# Altium footprint library 744273501.PcbLib: 1 footprints
Each footprint in its own frame and in the unit in brackets; x right, y up, seen from the top. Pads: shape width x height; smd on the part's side, far side on the other; paste and mask are expansions set on the pad; w line width, h text height; cw(c..) or ccw(c..) is an arc to the next point about the centre after c.
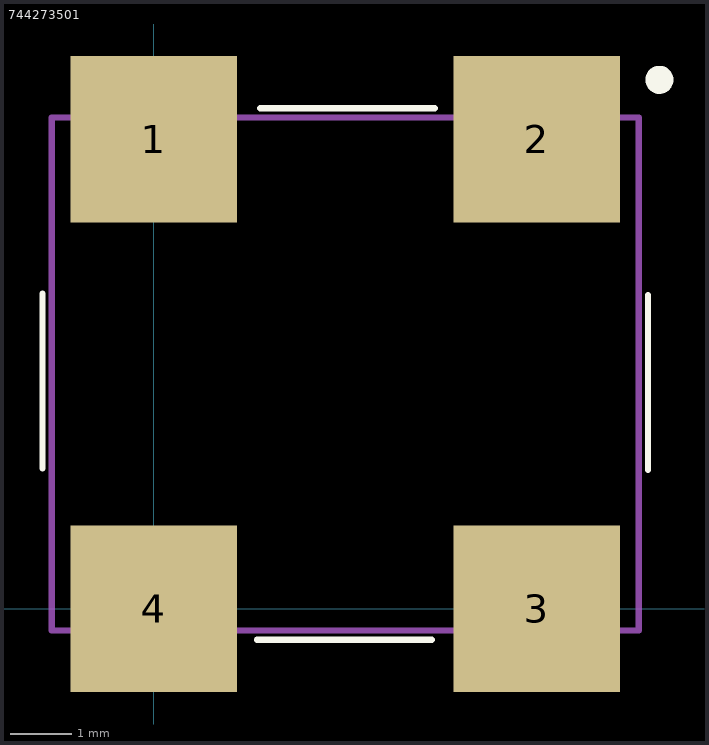
[diagram p0: the footprint, top view; thin cyan lines are the x and y axes]

## 744273501 [mm]
pads (4):
  rect 2.7x2.7 smd: 1(0,7.6) 2(6.2,7.6) 3(6.2,0) 4(0,0)
Top Overlay:
  circle w0.254: c8.185,8.562 r0.1
  lines w0.1: -1.8,2.275 -1.8,5.1 ; 1.675,-0.5 4.5,-0.5 ; 1.725,8.1 4.55,8.1 ; 8,2.25 8,5.075
Mechanical 1:
  lines w0.1: -1.65,-0.35 7.85,-0.35 7.85,7.95 -1.65,7.95 -1.65,-0.35
3D body "WE-SL5_HC_744273.stp": height 5.25, standoff -0.05, extent -1.65,-0.35 7.85,7.95